# EAGLE library part PIC12F50* (library microchip)
Microchip PIC12F508 and 509 8-pin 8-bit Flash microcontroller 512/1024 words program memory, 25/41 bytes RAM 6 I/O, 1 8-bit timer
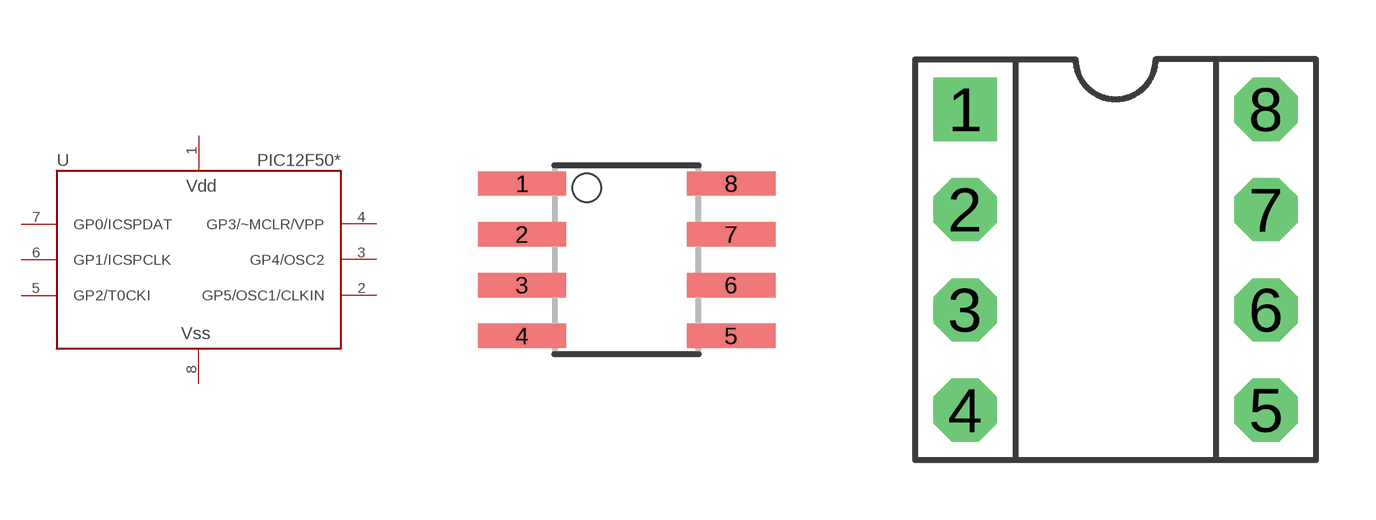
[diagram p9: symbol with the pads of SOIC-8; footprints SOIC-8, DIP-8]

Designator prefix U

## PIC12F508SN, PIC12F509SN  [SOIC-8]
1  VDD  pwr
2  GP5/OSC1/CLKIN
3  GP4/OSC2
4  GP3/~MCLR/VPP  in
5  GP2/T0CKI
6  GP1/ICSPCLK
7  GP0/ICSPDAT
8  VSS  pwr

## PIC12F508P, PIC12F509P  [DIP-8]
Pads as for SOIC-8

## Footprint SOIC-8 (pad centres in mm)
SOIC-8
smd 2.21 x 0.61: 1 -2.616,1.905; 2 -2.616,0.635; 3 -2.616,-0.635; 4 -2.616,-1.905; 5 2.616,-1.905; 6 2.616,-0.635; 7 2.616,0.635; 8 2.616,1.905

## Footprint DIP-8 (pad centres in mm)
DIP-8
drill 0.813 pad 1.6 square: 1 -3.81,3.81
drill 0.813 pad 1.6 octagon: 2 -3.81,1.27; 3 -3.81,-1.27; 4 -3.81,-3.81; 5 3.81,-3.81; 6 3.81,-1.27; 7 3.81,1.27; 8 3.81,3.81